# Altium footprint library LKS_motor_0310.PcbLib: 20 footprints (part 2 of 2)
Each footprint in its own frame and in the unit in brackets; x right, y up, seen from the top. Pads: shape width x height; smd on the part's side, far side on the other; paste and mask are expansions set on the pad; w line width, h text height; cw(c..) or ccw(c..) is an arc to the next point about the centre after c.
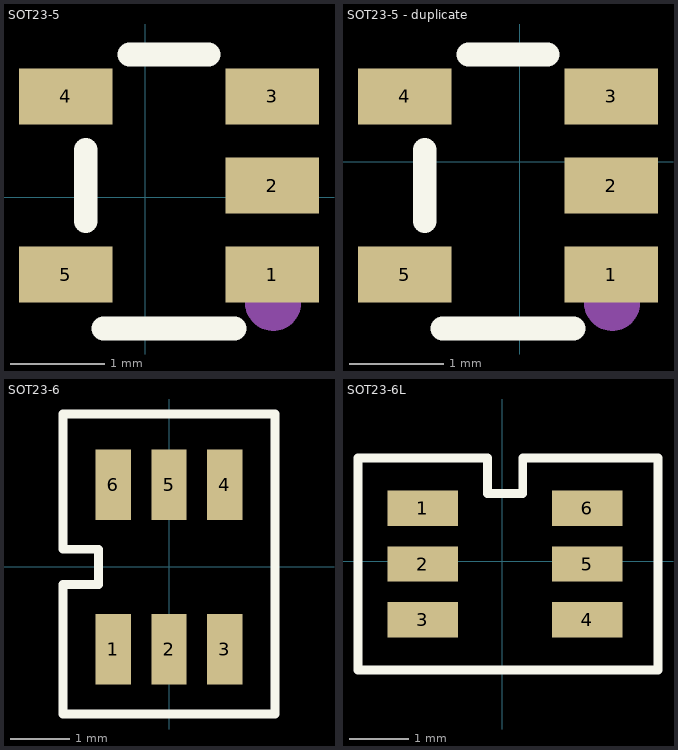
[diagram p1: the footprints below, top view; thin cyan lines are the x and y axes]

## SOT23-5 [mm]
pads (5):
  rect 1x0.6 smd: 1(1.354,-0.823) 2(1.354,0.127) 3(1.354,1.077) 4(-0.846,1.077) 5(-0.846,-0.823)
Top Overlay:
  lines w0.254: -0.635,-0.254 -0.635,0.508 ; -0.445,-1.397 0.952,-1.397 ; -0.168,1.524 0.676,1.524
Mechanical 6:
  circle w0.3: c1.364,-1.123 r0.15

## SOT23-5 - duplicate [mm]
pads (5):
  rect 1x0.6 smd: 1(0.973,-1.204) 2(0.973,-0.254) 3(0.973,0.696) 4(-1.227,0.696) 5(-1.227,-1.204)
Top Overlay:
  lines w0.254: -1.016,-0.635 -1.016,0.127 ; -0.826,-1.778 0.571,-1.778 ; -0.549,1.143 0.295,1.143
Mechanical 6:
  circle w0.3: c0.983,-1.504 r0.15

## SOT23-6 [mm]
pads (6):
  rect 0.6x1.2 smd: 1(-0.95,-1.4) 2(0,-1.4) 3(0.95,-1.4) 4(0.95,1.4) 5(0,1.4) 6(-0.95,1.4)
Top Overlay:
  lines w0.15: -1.8,-2.5 1.8,-2.5 1.8,2.6 -1.8,2.6 -1.8,0.3 -1.2,0.3 -1.2,-0.3 -1.8,-0.3 -1.8,-2.5

## SOT23-6L [mm]
pads (6):
  rect 1.2x0.6 smd: 1(-1.349,0.899) 2(-1.349,-0.051) 3(-1.349,-1.001) 4(1.451,-1.001) 5(1.451,-0.051) 6(1.451,0.899)
Top Overlay:
  lines w0.15: -2.449,-1.851 2.651,-1.851 2.651,1.749 0.351,1.749 0.351,1.149 -0.249,1.149 -0.249,1.749 -2.449,1.749 -2.449,-1.851